# EAGLE library part BMP085-BOB (library aq_pcb_v2)
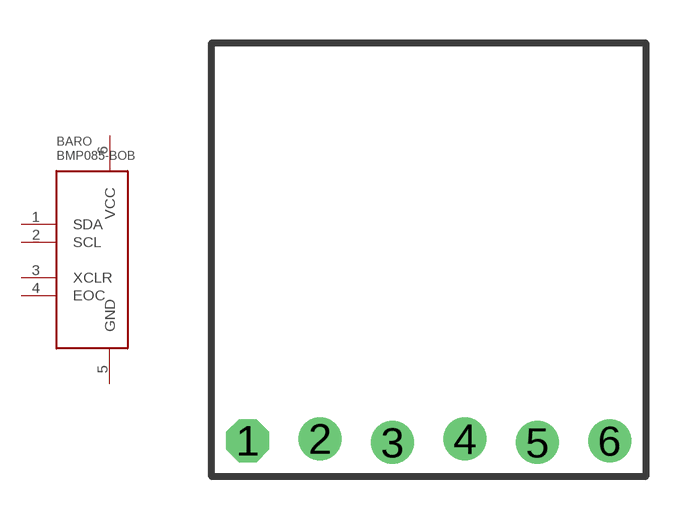
[diagram p5: symbol with the pads of BMP085-BOB; footprint BMP085-BOB]

Designator prefix BARO

## BMP085-BOB  [BMP085-BOB]
1  SDA
2  SCL
3  XCLR
4  EOC
5  GND  pwr
6  VCC  pwr

## Footprint BMP085-BOB (pad centres in mm)
drill 1 octagon: 1 -6.35,0
drill 1 round: 2 -3.81,0.064; 3 -1.27,-0.064; 4 1.27,0.064; 5 3.81,-0.064; 6 6.35,0